# Altium footprint library Intelligent-Lighting-MasterPCBlib.PcbLib: 50 footprints (part 4 of 4)
Each footprint in its own frame and in the unit in brackets; x right, y up, seen from the top. Pads: shape width x height; smd on the part's side, far side on the other; paste and mask are expansions set on the pad; w line width, h text height; cw(c..) or ccw(c..) is an arc to the next point about the centre after c.
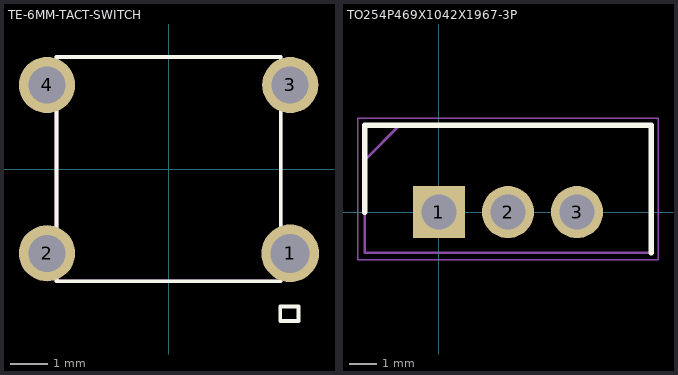
[diagram p3: the footprints below, top view; thin cyan lines are the x and y axes]

## TE-6MM-TACT-SWITCH [mm]
pads (4):
  round 1.54 hole 1.04: 1(3.25,-2.25)
  round 1.5 hole 0.99: 2(-3.25,-2.25) 3(3.25,2.25) 4(-3.25,2.25)
Top Overlay:
  lines w0.1: -3,-3 -3,3 3,3 3,-3 -3,-3 ; 2.984,-4.062 2.984,-3.672 3.473,-3.672 3.473,-4.062 2.984,-4.062
Mechanical 13:
  lines w0.1: -3,-3 -3,3 3,3 3,-3 -3,-3
3D body "1-1825910-0.stp": height 8.39, standoff -2.12, extent -3.9,-2.965 3.9,3.025

## TO254P469X1042X1967-3P [mm]
pads (3):
  rect 1.92x1.92 hole 1.28: 1(0,0)
  round 1.92 hole 1.28: 2(2.54,0) 3(5.08,0)
Top Overlay:
  lines w0.2: -2.73,0 -2.73,3.195 7.81,3.195 7.81,-1.495
Mechanical 13:
  lines w0.1: -2.73,1.925 -1.46,3.195 ; -2.73,-1.495 -2.73,3.195 7.81,3.195 7.81,-1.495 -2.73,-1.495
Mechanical 15:
  lines w0.05: -2.98,-1.745 -2.98,3.445 8.06,3.445 8.06,-1.745 -2.98,-1.745
3D body "IRLZ44NPBF.stp": height 18.84, standoff -17.51, extent -2.668,-1.495 7.748,3.195